# Altium footprint library S2B-ZRLFSN.PcbLib: 1 footprints
Each footprint in its own frame and in the unit in brackets; x right, y up, seen from the top. Pads: shape width x height; smd on the part's side, far side on the other; paste and mask are expansions set on the pad; w line width, h text height; cw(c..) or ccw(c..) is an arc to the next point about the centre after c.
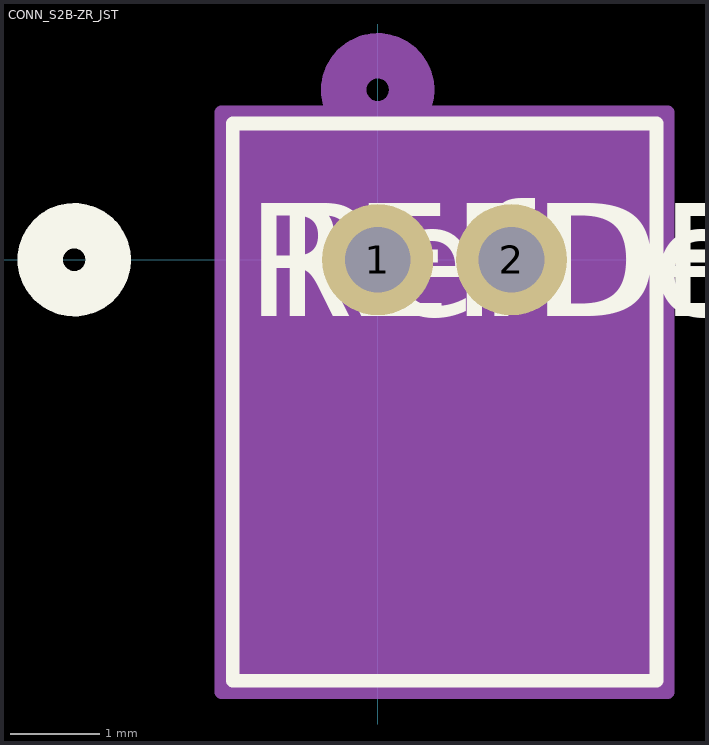
[diagram p0: the footprint, top view; thin cyan lines are the x and y axes]

## CONN_S2B-ZR_JST [mil]
pads (2):
  round 49 / inner round 60 / far side round 49 hole 29 paste-24.5 mask+0: 1(0,0) 2(59.06,0)
Top Overlay:
  circle w20: c-133.97,0 r15
  lines w6: -63.97,-185.88 123.03,-185.88 123.03,60.12 -63.97,60.12 -63.97,-185.88
  text "RefDes" at -45.47,-25 h50
  text "REFDES" at -57.97,-25 h50
Bottom Overlay:
  circle w20: c-133.97,0 r15
Mechanical 13:
  circle w20: c0,75 r15
  lines w1: -58.97,-180.88 118.03,-180.88 118.03,55.12 -58.97,55.12 -58.97,-180.88
  text "RefDes2" at -57.97,-25 h50
Mechanical 15:
  region: 128.03,65.12 -68.97,65.12 -68.97,-190.88 128.03,-190.88
  lines w6: -68.97,-190.88 -68.97,65.12 128.03,65.12 128.03,-190.88 -68.97,-190.88